# Altium integrated library Renesas Power Management Linear.IntLib: 125 symbols (part 2 of 4)
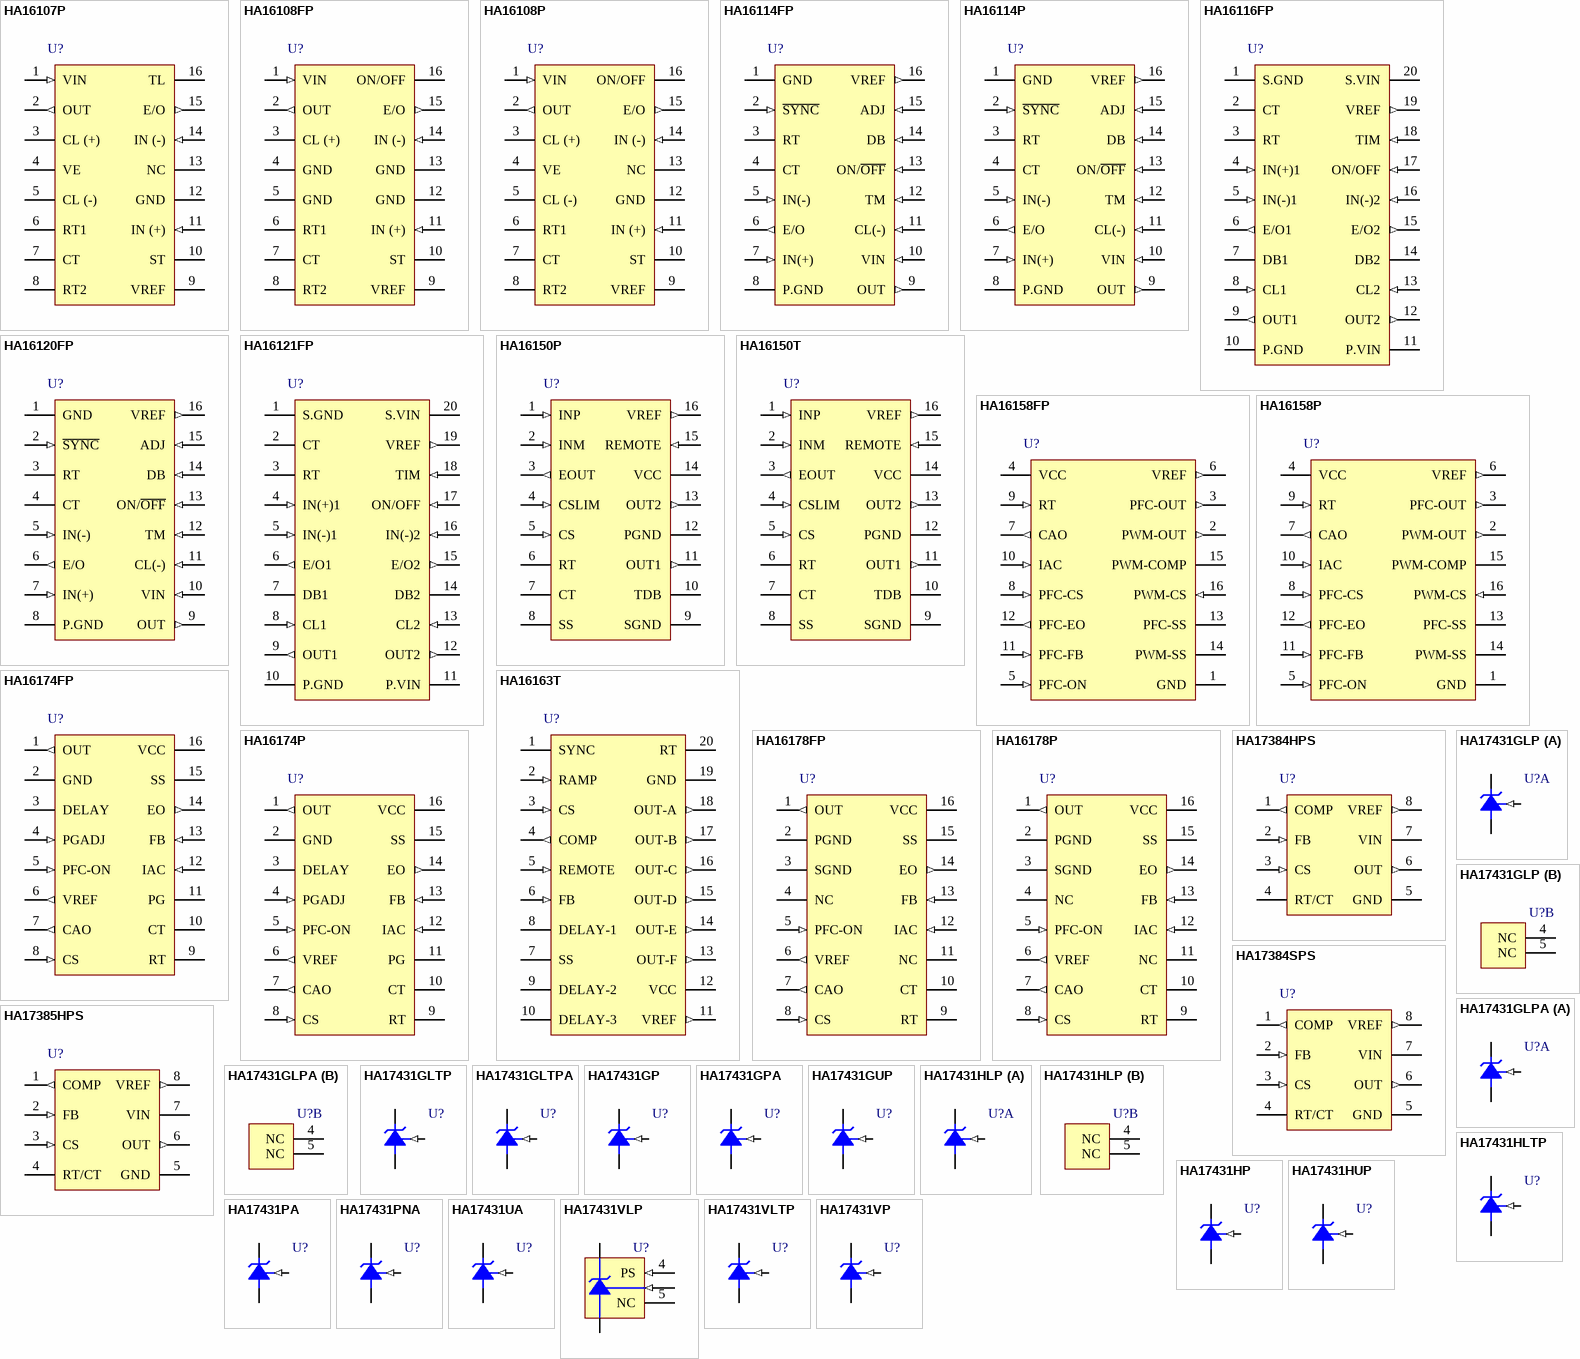
[diagram p4: symbols HA16107P to HA17431VP]

## HA16114FP
designator U?
Single-Channel PWM Switching Regulator for Chopper-Type DC/DC Converter, 600kHz, Vin (40V), 16-pin SOP; Note: Pin 1 (GND) and Pin 8 (P.GND) must be connected to each other with external wire.; Published: 5-Feb-2010; DatasheetVersion: Rev.2.00, Sep-2003; PackageVersion: Sep-2005; PackageReference: PRSP0016DH-A; Publisher: Altium Limited; PackageDescription: 16-Pin Plastic Small Outline Package 1.27 mm Pitch; Code_JEITA: P-SOP16-5.5x10.06-1.27; ComponentLink1Description: Manufacturer Link; ComponentLink1URL: http://sg.renesas.com/fmwk.jsp?cnt=dcdc_converter_root.jsp&fp=/products/standard_ic/general_purpose_linear/power_management_linear/dcdc_converter/; ComponentLink2Description: Datasheet; ComponentLink2URL: http://documentation.renesas.com/eng/products/linear/rej03f0055_ha16114.pdf; ComponentLink3Description: Packaging Specification; ComponentLink3URL: http://sg.renesas.com/media/products/common_info/package/pdf/ic/code/prsp0016dh_a.pdf
footprint PRSP0016DH-A_N (SOP, 16-Leads, Body 10.06x5.5mm, Pitch 1.27mm, IPC Medium Density)
footprint PRSP0016DH-A_L (SOP, 16-Leads, Body 10.06x5.5mm, Pitch 1.27mm, IPC High Density)
footprint PRSP0016DH-A_M (SOP, 16-Leads, Body 10.06x5.5mm, Pitch 1.27mm, IPC Low Density)
pins: 1 GND (power) "Signal ground", 2 ~{SYNC} (in) "External sync signal input (synchronized with falling edge)", 3 RT "Oscillator timing resistor connection (bias current control)", 4 CT "Oscillator timing capacitor connection (sawtooth voltage output)", 5 IN(-) (in) "Inverting input to error amplifier", 6 E/O (out) "Error amplifier output", 7 IN(+) (in) "Non-inverting input to error amplifier", 8 P.GND (power) "Power ground", 9 OUT (out) "Output (pulse output to gate of power MOSFET)", 10 VIN (in) "Power supply input", 11 CL(-) (in) "Inverting input to current limiter", 12 TM (in) "Timer setting for intermittent shutdown when overcurrent is detected (sinks timer transistor current)", 13 ON/~{OFF} (in) "IC on/off control (off below approximately 0.7 V)", 14 DB (in) "Dead-band duty cycle control input", 15 ADJ (in) "Reference voltage (Vref) adjustment input", 16 VREF (out) "2.5 V reference voltage output"

## HA16114P
designator U?
Single-Channel PWM Switching Regulator for Chopper-Type DC/DC Converter, 600kHz, Vin (40V), 16-pin DIP; Note: Pin 1 (GND) and Pin 8 (P.GND) must be connected to each other with external wire.; Published: 5-Feb-2010; DatasheetVersion: Rev.2.00, Sep-2003; PackageVersion: Sep-2005; PackageReference: PRDP0016AE-A; Publisher: Altium Limited; PackageDescription: DIP, Plastic, 16-Pin, Row Spacing 7.62 mm, Pitch 2.54 mm; Code_JEITA: P-DIP16-6.3x19.2-2.54; ComponentLink1Description: Manufacturer Link; ComponentLink1URL: http://sg.renesas.com/fmwk.jsp?cnt=dcdc_converter_root.jsp&fp=/products/standard_ic/general_purpose_linear/power_management_linear/dcdc_converter/; ComponentLink2Description: Datasheet; ComponentLink2URL: http://documentation.renesas.com/eng/products/linear/rej03f0055_ha16114.pdf; ComponentLink3Description: Packaging Specification; ComponentLink3URL: http://sg.renesas.com/media/products/common_info/package/pdf/ic/code/prdp0016ae_a.pdf
footprint PRDP0016AE-A (DIP, 16-Leads, Row Spacing 7.62mm, Pitch 2.54mm, Body 19.2x6.3mm)
pins: 1 GND (power) "Signal ground", 2 ~{SYNC} (in) "External sync signal input (synchronized with falling edge)", 3 RT "Oscillator timing resistor connection (bias current control)", 4 CT "Oscillator timing capacitor connection (sawtooth voltage output)", 5 IN(-) (in) "Inverting input to error amplifier", 6 E/O (out) "Error amplifier output", 7 IN(+) (in) "Non-inverting input to error amplifier", 8 P.GND (power) "Power ground", 9 OUT (out) "Output (pulse output to gate of power MOSFET)", 10 VIN (in) "Power supply input", 11 CL(-) (in) "Inverting input to current limiter", 12 TM (in) "Timer setting for intermittent shutdown when overcurrent is detected (sinks timer transistor current)", 13 ON/~{OFF} (in) "IC on/off control (off below approximately 0.7 V)", 14 DB (in) "Dead-band duty cycle control input", 15 ADJ (in) "Reference voltage (Vref) adjustment input", 16 VREF (out) "2.5 V reference voltage output"

## HA16116FP
designator U?
Dual-Channel PWM Switching Regulator for Chopper-Type DC/DC Converter, 600kHz, Vin (40V), 20-pin SOP; Published: 5-Feb-2010; DatasheetVersion: Rev.2.00, Sep-2003; PackageVersion: Sep-2005; PackageReference: PRSP0020DD-A; Publisher: Altium Limited; PackageDescription: 20-Pin Plastic Small Outline Package, 12.6 x 5.5 x 1.8 mm Body, 1.27 mm Pitch; Code_JEITA: P-SOP20-5.5x12.6-1.27; ComponentLink1Description: Manufacturer Link; ComponentLink1URL: http://sg.renesas.com/fmwk.jsp?cnt=dcdc_converter_root.jsp&fp=/products/standard_ic/general_purpose_linear/power_management_linear/dcdc_converter/; ComponentLink2Description: Datasheet; ComponentLink2URL: http://documentation.renesas.com/eng/products/linear/rej03f0056_ha16116_121.pdf; ComponentLink3Description: Packaging Specification; ComponentLink3URL: http://sg.renesas.com/media/products/common_info/package/pdf/ic/code/prsp0020dd_a.pdf
footprint PRSP0020DD-A_N (SOP, 20-Leads, Body 12.6x5.3mm, Pitch 1.27mm, IPC Medium Density)
footprint PRSP0020DD-A_L (SOP, 20-Leads, Body 12.6x5.3mm, Pitch 1.27mm, IPC High Density)
footprint PRSP0020DD-A_M (SOP, 20-Leads, Body 12.6x5.3mm, Pitch 1.27mm, IPC Low Density)
pins: 1 S.GND (power) "Signal circuitry ground", 2 CT "Timing capacitance (triangle wave oscillator output)", 3 RT "Timing resistance (for bias current synchronization)", 4 IN(+)1 (in) "Error amp. noninverting input (Channel 1)", 5 IN(-)1 (in) "Error amp. inverting input (Channel 1)", 6 E/O1 (out) "Error amp. output (Channel 1)", 7 DB1 "Dead band timer off period adjustment input (Channel 1)", 8 CL1 (in) "Overcurrent detection input (Channel 1)", 9 OUT1 (out) "PWM pulse output (Channel 1)", 10 P.GND (power) "Output stage ground", 11 P.VIN (power) "Output stage power supply input", 12 OUT2 (out) "PWM pulse output (Channel 2)", 13 CL2 (in) "Overcurrent detection input (Channel 2)", 14 DB2 "Dead band timer off period adjustment input (Channel 2)", 15 E/O2 (out) "Error amp. output (Channel 2)", 16 IN(-)2 (in) "Error amp. inverting input (Channel 2)", 17 ON/OFF (in) "IC on/off switch input (off when grounded)", 18 TIM (in) "Setting of intermittent operation timing when overcurrent is detected (collector input of timer transistor)", 19 VREF (out) "2.5 V reference voltage output", 20 S.VIN (power) "Signal circuitry power supply input"

## HA16120FP
designator U?
Single-Channel PWM Switching Regulator for Chopper-Type DC/DC Converter, 600kHz, Vin (40V), 16-pin SOP; Note: Pin 1 (GND) and Pin 8 (P.GND) must be connected to each other with external wire.; Published: 5-Feb-2010; DatasheetVersion: Rev.2.00, Sep-2003; PackageVersion: Sep-2005; PackageReference: PRSP0016DH-A; Publisher: Altium Limited; PackageDescription: 16-Pin Plastic Small Outline Package 1.27 mm Pitch; Code_JEITA: P-SOP16-5.5x10.06-1.27; ComponentLink1Description: Manufacturer Link; ComponentLink1URL: http://sg.renesas.com/fmwk.jsp?cnt=dcdc_converter_root.jsp&fp=/products/standard_ic/general_purpose_linear/power_management_linear/dcdc_converter/; ComponentLink2Description: Datasheet; ComponentLink2URL: http://documentation.renesas.com/eng/products/linear/rej03f0055_ha16114.pdf; ComponentLink3Description: Packaging Specification; ComponentLink3URL: http://sg.renesas.com/media/products/common_info/package/pdf/ic/code/prsp0016dh_a.pdf
footprint PRSP0016DH-A_N (SOP, 16-Leads, Body 10.06x5.5mm, Pitch 1.27mm, IPC Medium Density)
footprint PRSP0016DH-A_L (SOP, 16-Leads, Body 10.06x5.5mm, Pitch 1.27mm, IPC High Density)
footprint PRSP0016DH-A_M (SOP, 16-Leads, Body 10.06x5.5mm, Pitch 1.27mm, IPC Low Density)
pins: 1 GND (power) "Signal ground", 2 ~{SYNC} (in) "External sync signal input (synchronized with falling edge)", 3 RT "Oscillator timing resistor connection (bias current control)", 4 CT "Oscillator timing capacitor connection (sawtooth voltage output)", 5 IN(-) (in) "Inverting input to error amplifier", 6 E/O (out) "Error amplifier output", 7 IN(+) (in) "Non-inverting input to error amplifier", 8 P.GND (power) "Power ground", 9 OUT (out) "Output (pulse output to gate of power MOSFET)", 10 VIN (in) "Power supply input", 11 CL(-) (in) "Inverting input to current limiter", 12 TM (in) "Timer setting for intermittent shutdown when overcurrent is detected (sinks timer transistor current)", 13 ON/~{OFF} (in) "IC on/off control (off below approximately 0.7 V)", 14 DB (in) "Dead-band duty cycle control input", 15 ADJ (in) "Reference voltage (Vref) adjustment input", 16 VREF (out) "2.5 V reference voltage output"

## HA16121FP
designator U?
Dual-Channel PWM Switching Regulator for Chopper-Type DC/DC Converter, 600kHz, Vin (40V), 20-pin SOP; Published: 5-Feb-2010; DatasheetVersion: Rev.2.00, Sep-2003; PackageVersion: Sep-2005; PackageReference: PRSP0020DD-A; Publisher: Altium Limited; PackageDescription: 20-Pin Plastic Small Outline Package, 12.6 x 5.5 x 1.8 mm Body, 1.27 mm Pitch; Code_JEITA: P-SOP20-5.5x12.6-1.27; ComponentLink1Description: Manufacturer Link; ComponentLink1URL: http://sg.renesas.com/fmwk.jsp?cnt=dcdc_converter_root.jsp&fp=/products/standard_ic/general_purpose_linear/power_management_linear/dcdc_converter/; ComponentLink2Description: Datasheet; ComponentLink2URL: http://documentation.renesas.com/eng/products/linear/rej03f0056_ha16116_121.pdf; ComponentLink3Description: Packaging Specification; ComponentLink3URL: http://sg.renesas.com/media/products/common_info/package/pdf/ic/code/prsp0020dd_a.pdf
footprint PRSP0020DD-A_N (SOP, 20-Leads, Body 12.6x5.3mm, Pitch 1.27mm, IPC Medium Density)
footprint PRSP0020DD-A_L (SOP, 20-Leads, Body 12.6x5.3mm, Pitch 1.27mm, IPC High Density)
footprint PRSP0020DD-A_M (SOP, 20-Leads, Body 12.6x5.3mm, Pitch 1.27mm, IPC Low Density)
pins: 1 S.GND (power) "Signal circuitry ground", 2 CT "Timing capacitance (triangle wave oscillator output)", 3 RT "Timing resistance (for bias current synchronization)", 4 IN(+)1 (in) "Error amp. noninverting input (Channel 1)", 5 IN(-)1 (in) "Error amp. inverting input (Channel 1)", 6 E/O1 (out) "Error amp. output (Channel 1)", 7 DB1 "Dead band timer off period adjustment input (Channel 1)", 8 CL1 (in) "Overcurrent detection input (Channel 1)", 9 OUT1 (out) "PWM pulse output (Channel 1)", 10 P.GND (power) "Output stage ground", 11 P.VIN (power) "Output stage power supply input", 12 OUT2 (out) "PWM pulse output (Channel 2)", 13 CL2 (in) "Overcurrent detection input (Channel 2)", 14 DB2 "Dead band timer off period adjustment input (Channel 2)", 15 E/O2 (out) "Error amp. output (Channel 2)", 16 IN(-)2 (in) "Error amp. inverting input (Channel 2)", 17 ON/OFF (in) "IC on/off switch input (off when grounded)", 18 TIM (in) "Setting of intermittent operation timing when overcurrent is detected (collector input of timer transistor)", 19 VREF (out) "2.5 V reference voltage output", 20 S.VIN (power) "Signal circuitry power supply input"

## HA16150P
designator U?
High-Speed Current Mode Push-Pull PWM Controller, 1 MHzVin (20V), 16-pin DIP; Published: 5-Feb-2010; DatasheetVersion: Rev.3.00, Jan-2007; PackageVersion: Sep-2005; PackageReference: PRDP0016AE-A; Publisher: Altium Limited; PackageDescription: DIP, Plastic, 16-Pin, Row Spacing 7.62 mm, Pitch 2.54 mm; Code_JEITA: P-DIP16-6.3x19.2-2.54; ComponentLink1Description: Manufacturer Link; ComponentLink1URL: http://sg.renesas.com/fmwk.jsp?cnt=dcdc_converter_root.jsp&fp=/products/standard_ic/general_purpose_linear/power_management_linear/dcdc_converter/; ComponentLink2Description: Datasheet; ComponentLink2URL: http://documentation.renesas.com/eng/products/linear/rej03f0146_ha16150t.pdf; ComponentLink3Description: Packaging Specification; ComponentLink3URL: http://sg.renesas.com/media/products/common_info/package/pdf/ic/code/prdp0016ae_a.pdf
footprint PRDP0016AE-A (DIP, 16-Leads, Row Spacing 7.62mm, Pitch 2.54mm, Body 19.2x6.3mm)
pins: 1 INP (in) "Error amplifier non-inverted (+) input", 2 INM (in) "Error amplifier inverted (-) input", 3 EOUT (out) "Error amplifier output", 4 CSLIM (in) "Current limiter level adjustment", 5 CS (in) "Current sense signal input", 6 RT "Operating frequency setting resistance connection", 7 CT "Operating frequency setting capacitance connection", 8 SS "Soft start time setting timing capacitance connection", 9 SGND (power) "Small signal system ground", 10 TDB "Dead band time setting timing capacitance connection", 11 OUT1 (out) "Power MOSFET driver output 1", 12 PGND (power) "Power system ground", 13 OUT2 (out) "Power MOSFET driver output 2", 14 VCC (power) "Supply voltage", 15 REMOTE (in) "Remote on/off control", 16 VREF (out) "Reference voltage"

## HA16150T
designator U?
High-Speed Current Mode Push-Pull PWM Controller, 1 MHzVin (20V), 16-pin TSSOP; Published: 5-Feb-2010; DatasheetVersion: Rev.3.00, Jan-2007; PackageVersion: Sep-2005; PackageReference: PTSP0016JB-A; Publisher: Altium Limited; PackageDescription: 16-Pin Plastic Thin Small Outline Package, 5 x 4.4mm Body, 0.65 mm Pitch; Code_JEITA: P-TSSOP16-4.4x5-0.65; ComponentLink1Description: Manufacturer Link; ComponentLink1URL: http://sg.renesas.com/fmwk.jsp?cnt=dcdc_converter_root.jsp&fp=/products/standard_ic/general_purpose_linear/power_management_linear/dcdc_converter/; ComponentLink2Description: Datasheet; ComponentLink2URL: http://documentation.renesas.com/eng/products/linear/rej03f0146_ha16150t.pdf; ComponentLink3Description: Packaging Specification; ComponentLink3URL: http://sg.renesas.com/media/products/common_info/package/pdf/ic/code/ptsp0016jb_a.pdf
footprint PTSP0016JB-A_N (TSOP, 16-Leads, Body 5x4.4mm, Pitch 0.65mm, IPC Medium Density)
footprint PTSP0016JB-A_L (TSOP, 16-Leads, Body 5x4.4mm, Pitch 0.65mm, IPC High Density)
footprint PTSP0016JB-A_M (TSOP, 16-Leads, Body 5x4.4mm, Pitch 0.65mm, IPC Low Density)
pins: 1 INP (in) "Error amplifier non-inverted (+) input", 2 INM (in) "Error amplifier inverted (-) input", 3 EOUT (out) "Error amplifier output", 4 CSLIM (in) "Current limiter level adjustment", 5 CS (in) "Current sense signal input", 6 RT "Operating frequency setting resistance connection", 7 CT "Operating frequency setting capacitance connection", 8 SS "Soft start time setting timing capacitance connection", 9 SGND (power) "Small signal system ground", 10 TDB "Dead band time setting timing capacitance connection", 11 OUT1 (out) "Power MOSFET driver output 1", 12 PGND (power) "Power system ground", 13 OUT2 (out) "Power MOSFET driver output 2", 14 VCC (power) "Supply voltage", 15 REMOTE (in) "Remote on/off control", 16 VREF (out) "Reference voltage"

## HA16158FP
designator U?
Power-Factor Correction (PFC) and PWM Controller, VCC (24V), 16-pin SOP; Published: 5-Feb-2010; DatasheetVersion: Rev.2.00, Jan-2007; PackageVersion: Sep-2005; PackageReference: PRSP0016DH-A; Publisher: Altium Limited; PackageDescription: 16-Pin Plastic Small Outline Package 1.27 mm Pitch; Code_JEITA: P-SOP16-5.5x10.06-1.27; ComponentLink1Description: Manufacturer Link; ComponentLink1URL: http://sg.renesas.com/fmwk.jsp?cnt=pfc_power_supply_root.jsp&fp=/products/standard_ic/general_purpose_linear/power_management_linear/pfc_power_supply/; ComponentLink2Description: Datasheet; ComponentLink2URL: http://documentation.renesas.com/eng/products/linear/rej03f0147_ha16158p.pdf; ComponentLink3Description: Packaging Specification; ComponentLink3URL: http://sg.renesas.com/media/products/common_info/package/pdf/ic/code/prsp0016dh_a.pdf
footprint PRSP0016DH-A_N (SOP, 16-Leads, Body 10.06x5.5mm, Pitch 1.27mm, IPC Medium Density)
footprint PRSP0016DH-A_L (SOP, 16-Leads, Body 10.06x5.5mm, Pitch 1.27mm, IPC High Density)
footprint PRSP0016DH-A_M (SOP, 16-Leads, Body 10.06x5.5mm, Pitch 1.27mm, IPC Low Density)
pins: 1 GND (power) "Ground", 2 PWM-OUT (out) "Power MOS FET driver output (PWM control)", 3 PFC-OUT (out) "Power MOS FET driver output (PFC control)", 4 VCC (power) "Supply voltage", 5 PFC-ON (in) "PFC function on/off signal input", 6 VREF (out) "Reference voltage", 7 CAO (out) "Average current control error amplifier output", 8 PFC-CS (in) "PFC control current sense signal input", 9 RT (in) "Operating frequency setting timing resistance connection", 10 IAC (in) "Multiplier reference current input", 11 PFC-FB (in) "PFC control error amplifier input", 12 PFC-EO (out) "PFC control error amplifier output", 13 PFC-SS "PFC control soft start time setting capacitance connection", 14 PWM-SS "PWM control soft start time setting capacitance connection", 15 PWM-COMP "PWM control voltage feedback", 16 PWM-CS (in) "PWM control current sense signal input"

## HA16158P
designator U?
Power-Factor Correction (PFC) and PWM Controller, VCC (24V), 16-pin DILP; Published: 5-Feb-2010; DatasheetVersion: Rev.2.00, Jan-2007; PackageVersion: Sep-2005; PackageReference: PRDP0016AE-A; Publisher: Altium Limited; PackageDescription: DIP, Plastic, 16-Pin, Row Spacing 7.62 mm, Pitch 2.54 mm; Code_JEITA: P-DIP16-6.3x19.2-2.54; ComponentLink1Description: Manufacturer Link; ComponentLink1URL: http://sg.renesas.com/fmwk.jsp?cnt=pfc_power_supply_root.jsp&fp=/products/standard_ic/general_purpose_linear/power_management_linear/pfc_power_supply/; ComponentLink2Description: Datasheet; ComponentLink2URL: http://documentation.renesas.com/eng/products/linear/rej03f0147_ha16158p.pdf; ComponentLink3Description: Packaging Specification; ComponentLink3URL: http://sg.renesas.com/media/products/common_info/package/pdf/ic/code/prdp0016ae_a.pdf
footprint PRDP0016AE-A (DIP, 16-Leads, Row Spacing 7.62mm, Pitch 2.54mm, Body 19.2x6.3mm)
pins: 1 GND (power) "Ground", 2 PWM-OUT (out) "Power MOS FET driver output (PWM control)", 3 PFC-OUT (out) "Power MOS FET driver output (PFC control)", 4 VCC (power) "Supply voltage", 5 PFC-ON (in) "PFC function on/off signal input", 6 VREF (out) "Reference voltage", 7 CAO (out) "Average current control error amplifier output", 8 PFC-CS (in) "PFC control current sense signal input", 9 RT (in) "Operating frequency setting timing resistance connection", 10 IAC (in) "Multiplier reference current input", 11 PFC-FB (in) "PFC control error amplifier input", 12 PFC-EO (out) "PFC control error amplifier output", 13 PFC-SS "PFC control soft start time setting capacitance connection", 14 PWM-SS "PWM control soft start time setting capacitance connection", 15 PWM-COMP "PWM control voltage feedback", 16 PWM-CS (in) "PWM control current sense signal input"

## HA16163T
designator U?
Synchronous Phase Shift Full-Bridge Controller, 2 MHz, Vin (20V), 20-pin TSSOP; Published: 5-Feb-2010; DatasheetVersion: Rev.6.00, Jul-2008; PackageVersion: Sep-2005; PackageReference: PTSP0020JB-A; Publisher: Altium Limited; PackageDescription: 20-Pin Plastic Thin Small Outline Package, 6.5 x 4.4 mm Body, 0.65 mm Pitch; Code_JEITA: P-TSSOP20-4.4x6.5-0.65; ComponentLink1Description: Manufacturer Link; ComponentLink1URL: http://sg.renesas.com/fmwk.jsp?cnt=insulated_swps_root.jsp&fp=/products/standard_ic/general_purpose_linear/power_management_linear/insulated_sw_powersupply/; ComponentLink2Description: Datasheet; ComponentLink2URL: http://documentation.renesas.com/eng/products/linear/rej03f0001_ha16163t.pdf; ComponentLink3Description: Packaging Specification; ComponentLink3URL: http://sg.renesas.com/media/products/common_info/package/pdf/ic/code/ptsp0020jb_a.pdf
footprint PTSP0020JB-A_N (TSOP, 20-Leads, Body 6.5x4.4mm, Pitch 0.65mm, IPC Medium Density)
footprint PTSP0020JB-A_L (TSOP, 20-Leads, Body 6.5x4.4mm, Pitch 0.65mm, IPC High Density)
footprint PTSP0020JB-A_M (TSOP, 20-Leads, Body 6.5x4.4mm, Pitch 0.65mm, IPC Low Density)
pins: 1 SYNC "Synchronization I/O for the oscillator", 2 RAMP (in) "Current sense signal input for the full-bridge control loop", 3 CS (in) "Current sense signal input for OCP", 4 COMP (out) "Error amplifier output", 5 REMOTE (in) "Remote on/off control", 6 FB (in) "Voltage feedback input", 7 SS "Timing capacitor for both soft start and timer latch", 8 DELAY-1 "Delay time adjustor for the full-bridge control signal (OUT-A and B)", 9 DELAY-2 "Delay time adjustor for the full-bridge control signal (OUT-C and D)", 10 DELAY-3 "Delay time adjustor for the secondary control signal (OUT-E and F)", 11 VREF (out) "5 V/20 mA Output", 12 VCC (power) "IC power supply input", 13 OUT-F (out) "Secondary control signal", 14 OUT-E (out) "Secondary control signal", 15 OUT-D (out) "Full-bridge control signal", 16 OUT-C (out) "Full-bridge control signal", 17 OUT-B (out) "Full-bridge control signal", 18 OUT-A (out) "Full-bridge control signal", 19 GND (power) "Ground level for the IC", 20 RT "Timing resistor for the oscillator"

## HA16174FP
designator U?
Power-Factor Correction (PFC) Controller, Continuous Conduction Mode, VCC (24V), 16-pin SOP; Published: 5-Feb-2010; DatasheetVersion: Rev.1.00, Jan-2006; PackageVersion: Sep-2005; PackageReference: PRSP0016DH-B; Publisher: Altium Limited; PackageDescription: 16-Pin Plastic Small Outline Package 1.27 mm Pitch; Code_JEITA: P-SOP16-5.5x10.06-1.27; ComponentLink1Description: Manufacturer Link; ComponentLink1URL: http://sg.renesas.com/fmwk.jsp?cnt=pfc_power_supply_root.jsp&fp=/products/standard_ic/general_purpose_linear/power_management_linear/pfc_power_supply/; ComponentLink2Description: Datasheet; ComponentLink2URL: http://documentation.renesas.com/eng/products/linear/rej03d0789_ha16174p_fp.pdf; ComponentLink3Description: Packaging Specification; ComponentLink3URL: http://sg.renesas.com/media/products/common_info/package/pdf/ic/code/prsp0016dh_b.pdf
footprint PRSP0016DH-B_N (SOP, 16-Leads, Body 10.06x5.5mm, Pitch 1.27mm, IPC Medium Density)
footprint PRSP0016DH-B_L (SOP, 16-Leads, Body 10.06x5.5mm, Pitch 1.27mm, IPC High Density)
footprint PRSP0016DH-B_M (SOP, 16-Leads, Body 10.06x5.5mm, Pitch 1.27mm, IPC Low Density)
pins: 1 OUT (out) "Power MOSFET gate driver output", 2 GND (power) "Ground", 3 DELAY "PG start up delay time and hold time adjust and IC shut down", 4 PGADJ (in) "PG off threshold voltage input", 5 PFC-ON (in) "PFC function on/off signal input", 6 VREF (out) "Reference voltage output", 7 CAO (out) "Current control error amplifier output", 8 CS (in) "Current sense signal input", 9 RT "Timing resistor for operational frequency adjust", 10 CT "Timing capacitor for operational frequency adjust", 11 PG (oc) "Power good signal output (open drain output)", 12 IAC (in) "Multiplier reference current input", 13 FB (in) "Voltage control error amplifier input", 14 EO (out) "Voltage control error amplifier output", 15 SS "Timing capacitor for soft start time adjust", 16 VCC (power) "Power supply voltage input"

## HA16174P
designator U?
Power-Factor Correction (PFC) Controller, Continuous Conduction Mode, VCC (24V), 16-pin DIP; Published: 5-Feb-2010; DatasheetVersion: Rev.1.00, Jan-2006; PackageVersion: Sep-2005; PackageReference: PRDP0016AE-B; Publisher: Altium Limited; PackageDescription: DIP, Plastic, 16-Pin, Row Spacing 7.62 mm, Pitch 2.54 mm; Code_JEITA: P-DIP16-6.3x19.2-2.54; ComponentLink1Description: Manufacturer Link; ComponentLink1URL: http://sg.renesas.com/fmwk.jsp?cnt=pfc_power_supply_root.jsp&fp=/products/standard_ic/general_purpose_linear/power_management_linear/pfc_power_supply/; ComponentLink2Description: Datasheet; ComponentLink2URL: http://documentation.renesas.com/eng/products/linear/rej03d0789_ha16174p_fp.pdf; ComponentLink3Description: Packaging Specification; ComponentLink3URL: http://sg.renesas.com/media/products/common_info/package/pdf/ic/code/prdp0016ae_b.pdf
footprint PRDP0016AE-B (DIP, 16-Leads, Row Spacing 7.62mm, Pitch 2.54mm, Body 19.2x6.3mm)
pins: 1 OUT (out) "Power MOSFET gate driver output", 2 GND (power) "Ground", 3 DELAY "PG start up delay time and hold time adjust and IC shut down", 4 PGADJ (in) "PG off threshold voltage input", 5 PFC-ON (in) "PFC function on/off signal input", 6 VREF (out) "Reference voltage output", 7 CAO (out) "Current control error amplifier output", 8 CS (in) "Current sense signal input", 9 RT "Timing resistor for operational frequency adjust", 10 CT "Timing capacitor for operational frequency adjust", 11 PG (oc) "Power good signal output (open drain output)", 12 IAC (in) "Multiplier reference current input", 13 FB (in) "Voltage control error amplifier input", 14 EO (out) "Voltage control error amplifier output", 15 SS "Timing capacitor for soft start time adjust", 16 VCC (power) "Power supply voltage input"

## HA16178FP
designator U?
Power-Factor Correction (PFC) Controller, VCC (24V), 16-pin SOP; Published: 5-Feb-2010; DatasheetVersion: Rev.1.00, Jun-2007; PackageVersion: Sep-2005; PackageReference: PRSP0016DH-B; Publisher: Altium Limited; PackageDescription: 16-Pin Plastic Small Outline Package 1.27 mm Pitch; Code_JEITA: P-SOP16-5.5x10.06-1.27; ComponentLink1Description: Manufacturer Link; ComponentLink1URL: http://sg.renesas.com/fmwk.jsp?cnt=pfc_power_supply_root.jsp&fp=/products/standard_ic/general_purpose_linear/power_management_linear/pfc_power_supply/; ComponentLink2Description: Datasheet; ComponentLink2URL: http://documentation.renesas.com/eng/products/linear/rej03d0903_ha16178pds.pdf; ComponentLink3Description: Packaging Specification; ComponentLink3URL: http://sg.renesas.com/media/products/common_info/package/pdf/ic/code/prsp0016dh_b.pdf
footprint PRSP0016DH-B_N (SOP, 16-Leads, Body 10.06x5.5mm, Pitch 1.27mm, IPC Medium Density)
footprint PRSP0016DH-B_L (SOP, 16-Leads, Body 10.06x5.5mm, Pitch 1.27mm, IPC High Density)
footprint PRSP0016DH-B_M (SOP, 16-Leads, Body 10.06x5.5mm, Pitch 1.27mm, IPC Low Density)
pins: 1 OUT (out) "Power MOSFET gate driver output", 2 PGND (power) "Ground", 3 SGND (power) "Ground", 4 NC "No connection", 5 PFC-ON (in) "PFC function on/off signal input", 6 VREF (out) "Reference voltage output", 7 CAO (out) "Current control error amplifier output", 8 CS (in) "Current sense signal input", 9 RT "Timing resistor for operational frequency adjust", 10 CT "Timing capacitor for operational frequency adjust", 11 NC "No connection", 12 IAC (in) "Multiplier reference current input", 13 FB (in) "Voltage control error amplifier input", 14 EO (out) "Voltage control error amplifier output", 15 SS "Timing capacitor for soft start time adjust", 16 VCC (power) "Power supply voltage input"

## HA16178P
designator U?
Power-Factor Correction (PFC) Controller, VCC (24V), 16-pin DIP; Published: 5-Feb-2010; DatasheetVersion: Rev.1.00, Jun-2007; PackageVersion: Sep-2005; PackageReference: PRDP0016AE-B; Publisher: Altium Limited; PackageDescription: DIP, Plastic, 16-Pin, Row Spacing 7.62 mm, Pitch 2.54 mm; Code_JEITA: P-DIP16-6.3x19.2-2.54; ComponentLink1Description: Manufacturer Link; ComponentLink1URL: http://sg.renesas.com/fmwk.jsp?cnt=pfc_power_supply_root.jsp&fp=/products/standard_ic/general_purpose_linear/power_management_linear/pfc_power_supply/; ComponentLink2Description: Datasheet; ComponentLink2URL: http://documentation.renesas.com/eng/products/linear/rej03d0903_ha16178pds.pdf; ComponentLink3Description: Packaging Specification; ComponentLink3URL: http://sg.renesas.com/media/products/common_info/package/pdf/ic/code/prdp0016ae_b.pdf
footprint PRDP0016AE-B (DIP, 16-Leads, Row Spacing 7.62mm, Pitch 2.54mm, Body 19.2x6.3mm)
pins: 1 OUT (out) "Power MOSFET gate driver output", 2 PGND (power) "Ground", 3 SGND (power) "Ground", 4 NC "No connection", 5 PFC-ON (in) "PFC function on/off signal input", 6 VREF (out) "Reference voltage output", 7 CAO (out) "Current control error amplifier output", 8 CS (in) "Current sense signal input", 9 RT "Timing resistor for operational frequency adjust", 10 CT "Timing capacitor for operational frequency adjust", 11 NC "No connection", 12 IAC (in) "Multiplier reference current input", 13 FB (in) "Voltage control error amplifier input", 14 EO (out) "Voltage control error amplifier output", 15 SS "Timing capacitor for soft start time adjust", 16 VCC (power) "Power supply voltage input"

## HA17384HPS
designator U?
High Speed Current Mode PWM Controller for Switching Power Supply, OVP & TSD, 500kHz, Vin (30V), 8-pin DIP; ComponentAvailability: Not Recommended for New Design; Published: 5-Feb-2010; DatasheetVersion: Rev.3.00, Jun-2005; PackageVersion: Sep-2005; PackageReference: PRDP0008AF-A; Publisher: Altium Limited; PackageDescription: 8-Pin Plastic DIP, 9.6 x 6.3 mm Body, 7.62 mm Row Spacing, Pitch 2.54 mm; Code_JEITA: P-DIP8-6.3x9.6-2.54; ComponentLink1Description: Manufacturer Link; ComponentLink1URL: http://sg.renesas.com/fmwk.jsp?cnt=insulated_swps_root.jsp&fp=/products/standard_ic/general_purpose_linear/power_management_linear/insulated_sw_powersupply/; ComponentLink2Description: Datasheet; ComponentLink2URL: http://documentation.renesas.com/eng/products/linear/rej03f0149_ha17384sps.pdf; ComponentLink3Description: Packaging Specification; ComponentLink3URL: http://sg.renesas.com/media/products/common_info/package/pdf/ic/code/prdp0008af_a.pdf
footprint PRDP0008AF-A (DIP, 8-Leads, Row Spacing 7.62mm, Pitch 2.54mm, Body 9.6x6.3mm)
pins: 1 COMP (out) "Error amplifier output pin", 2 FB (in) "Inverting input of error amp./OVP input pin", 3 CS (in) "Current sensing signal input pin", 4 RT/CT "Timing resistance, timing capacitance connect pin", 5 GND (power) "Groung pin", 6 OUT (out) "PWM Pulse output pin", 7 VIN (power) "Power supply voltage input pin", 8 VREF (out) "Reference voltage 5V output pin"

## HA17384SPS
designator U?
High Speed Current Mode PWM Controller for Switching Power Supply, 500kHz, Vin (30V), 8-pin DIP; ComponentAvailability: Not Recommended for New Design; Published: 5-Feb-2010; DatasheetVersion: Rev.3.00, Jun-2005; PackageVersion: Sep-2005; PackageReference: PRDP0008AF-A; Publisher: Altium Limited; PackageDescription: 8-Pin Plastic DIP, 9.6 x 6.3 mm Body, 7.62 mm Row Spacing, Pitch 2.54 mm; Code_JEITA: P-DIP8-6.3x9.6-2.54; ComponentLink1Description: Manufacturer Link; ComponentLink1URL: http://sg.renesas.com/fmwk.jsp?cnt=insulated_swps_root.jsp&fp=/products/standard_ic/general_purpose_linear/power_management_linear/insulated_sw_powersupply/; ComponentLink2Description: Datasheet; ComponentLink2URL: http://documentation.renesas.com/eng/products/linear/rej03f0149_ha17384sps.pdf; ComponentLink3Description: Packaging Specification; ComponentLink3URL: http://sg.renesas.com/media/products/common_info/package/pdf/ic/code/prdp0008af_a.pdf
footprint PRDP0008AF-A (DIP, 8-Leads, Row Spacing 7.62mm, Pitch 2.54mm, Body 9.6x6.3mm)
pins: 1 COMP (out) "Error amplifier output pin", 2 FB (in) "Inverting input of error amp.", 3 CS (in) "Current sensing signal input pin", 4 RT/CT "Timing resistance, timing capacitance connect pin", 5 GND (power) "Groung pin", 6 OUT (out) "PWM Pulse output pin", 7 VIN (power) "Power supply voltage input pin", 8 VREF (out) "Reference voltage 5V output pin"

## HA17385HPS
designator U?
High Speed Current Mode PWM Controller for Switching Power Supply, OVP & TSD, 500kHz, Vin (30V), 8-pin DIP; ComponentAvailability: Not Recommended for New Design; Published: 5-Feb-2010; DatasheetVersion: Rev.3.00, Jun-2005; PackageVersion: Sep-2005; PackageReference: PRDP0008AF-A; Publisher: Altium Limited; PackageDescription: 8-Pin Plastic DIP, 9.6 x 6.3 mm Body, 7.62 mm Row Spacing, Pitch 2.54 mm; Code_JEITA: P-DIP8-6.3x9.6-2.54; ComponentLink1Description: Manufacturer Link; ComponentLink1URL: http://sg.renesas.com/fmwk.jsp?cnt=insulated_swps_root.jsp&fp=/products/standard_ic/general_purpose_linear/power_management_linear/insulated_sw_powersupply/; ComponentLink2Description: Datasheet; ComponentLink2URL: http://documentation.renesas.com/eng/products/linear/rej03f0149_ha17384sps.pdf; ComponentLink3Description: Packaging Specification; ComponentLink3URL: http://sg.renesas.com/media/products/common_info/package/pdf/ic/code/prdp0008af_a.pdf
footprint PRDP0008AF-A (DIP, 8-Leads, Row Spacing 7.62mm, Pitch 2.54mm, Body 9.6x6.3mm)
pins: 1 COMP (out) "Error amplifier output pin", 2 FB (in) "Inverting input of error amp./OVP input pin", 3 CS (in) "Current sensing signal input pin", 4 RT/CT "Timing resistance, timing capacitance connect pin", 5 GND (power) "Groung pin", 6 OUT (out) "PWM Pulse output pin", 7 VIN (power) "Power supply voltage input pin", 8 VREF (out) "Reference voltage 5V output pin"

## HA17431GLP
designator U?
Temperature-Compensated Variable Shunt Regulator, Vref (2.5V ± 1%), VKA (40V), MPAK-5 Package, Industrial Grade; Published: 5-Feb-2010; DatasheetVersion: Rev.1.00, Mar-2006; PackageVersion: Jan-2005; PackageReference: PLSP0005ZB-A; Publisher: Altium Limited; PackageDescription: 5-Lead Plastic Small Outline Transistor, 0.95 mm Pitch, 2.8 mm Lead Span; Code_JEITA: SC-74A; Code_IPC: SOT23-5; ComponentLink1Description: Manufacturer Link; ComponentLink1URL: http://sg.renesas.com/fmwk.jsp?cnt=shunt_regulators_root.jsp&fp=/products/standard_ic/general_purpose_linear/power_management_linear/shunt_regulators/; ComponentLink2Description: Datasheet; ComponentLink2URL: http://documentation.renesas.com/eng/products/linear/rej03d0805_ha17431gds.pdf; ComponentLink3Description: Packaging Specification; ComponentLink3URL: http://sg.renesas.com/media/products/common_info/package/pdf/ic/code/plsp0005zb_a.pdf
footprint PLSP0005ZB-A_N (SOT23, 5-Leads, Body 2.95x1.6mm, Pitch 0.95mm, Lead Span 2.7mm, IPC Medium Density)
footprint PLSP0005ZB-A_L (SOT23, 5-Leads, Body 2.95x1.6mm, Pitch 0.95mm, Lead Span 2.7mm, IPC High Density)
footprint PLSP0005ZB-A_M (SOT23, 5-Leads, Body 2.95x1.6mm, Pitch 0.95mm, Lead Span 2.7mm, IPC Low Density)
part A pins: 1 REF (in), 2 A, 3 K
part B pins: 4 NC, 5 NC

## HA17431GLPA
designator U?
Temperature-Compensated Variable Shunt Regulator, Vref (2.5V ± 0.5%), VKA (40V), MPAK-5 Package, Industrial Grade; Published: 5-Feb-2010; DatasheetVersion: Rev.1.00, Mar-2006; PackageVersion: Jan-2005; PackageReference: PLSP0005ZB-A; Publisher: Altium Limited; PackageDescription: 5-Lead Plastic Small Outline Transistor, 0.95 mm Pitch, 2.8 mm Lead Span; Code_JEITA: SC-74A; Code_IPC: SOT23-5; ComponentLink1Description: Manufacturer Link; ComponentLink1URL: http://sg.renesas.com/fmwk.jsp?cnt=shunt_regulators_root.jsp&fp=/products/standard_ic/general_purpose_linear/power_management_linear/shunt_regulators/; ComponentLink2Description: Datasheet; ComponentLink2URL: http://documentation.renesas.com/eng/products/linear/rej03d0805_ha17431gds.pdf; ComponentLink3Description: Packaging Specification; ComponentLink3URL: http://sg.renesas.com/media/products/common_info/package/pdf/ic/code/plsp0005zb_a.pdf
footprint PLSP0005ZB-A_N (SOT23, 5-Leads, Body 2.95x1.6mm, Pitch 0.95mm, Lead Span 2.7mm, IPC Medium Density)
footprint PLSP0005ZB-A_L (SOT23, 5-Leads, Body 2.95x1.6mm, Pitch 0.95mm, Lead Span 2.7mm, IPC High Density)
footprint PLSP0005ZB-A_M (SOT23, 5-Leads, Body 2.95x1.6mm, Pitch 0.95mm, Lead Span 2.7mm, IPC Low Density)
part A pins: 1 REF (in), 2 A, 3 K
part B pins: 4 NC, 5 NC

## HA17431GLTP
designator U?
Temperature-Compensated Variable Shunt Regulator, Vref (2.5V ± 1%), VKA (40V), MPAK Package, Industrial Grade; Published: 5-Feb-2010; DatasheetVersion: Rev.1.00, Mar-2006; PackageVersion: Sep-2005; PackageReference: MPAKV; Publisher: Altium Limited; PackageDescription: 3-Pin Plastic SOT-23 Package 0.95 mm Pitch, 2.8 mm Lead Span (PLSP0003ZB-A); Code_JEITA: SC-59A; ComponentLink1Description: Manufacturer Link; ComponentLink1URL: http://sg.renesas.com/fmwk.jsp?cnt=shunt_regulators_root.jsp&fp=/products/standard_ic/general_purpose_linear/power_management_linear/shunt_regulators/; ComponentLink2Description: Datasheet; ComponentLink2URL: http://documentation.renesas.com/eng/products/linear/rej03d0805_ha17431gds.pdf; ComponentLink3Description: Packaging Specification; ComponentLink3URL: http://sg.renesas.com/media/products/common_info/package/pdf/ic/code/plsp0003zb_a.pdf
footprint MPAKV_N (SOT346, 3-Leads, Body 2.9x1.5mm, Pitch 0.95mm, Lead Span 2.8mm, IPC Medium Density)
footprint MPAKV_L (SOT346, 3-Leads, Body 2.9x1.5mm, Pitch 0.95mm, Lead Span 2.8mm, IPC High Density)
footprint MPAKV_M (SOT346, 3-Leads, Body 2.9x1.5mm, Pitch 0.95mm, Lead Span 2.8mm, IPC Low Density)
pins: 1 REF (in), 2 K, 3 A

## HA17431GLTPA
designator U?
Temperature-Compensated Variable Shunt Regulator, Vref (2.5V ± 0.5%), VKA (40V), MPAK Package, Industrial Grade; Published: 5-Feb-2010; DatasheetVersion: Rev.1.00, Mar-2006; PackageVersion: Sep-2005; PackageReference: MPAKV; Publisher: Altium Limited; PackageDescription: 3-Pin Plastic SOT-23 Package 0.95 mm Pitch, 2.8 mm Lead Span (PLSP0003ZB-A); Code_JEITA: SC-59A; ComponentLink1Description: Manufacturer Link; ComponentLink1URL: http://sg.renesas.com/fmwk.jsp?cnt=shunt_regulators_root.jsp&fp=/products/standard_ic/general_purpose_linear/power_management_linear/shunt_regulators/; ComponentLink2Description: Datasheet; ComponentLink2URL: http://documentation.renesas.com/eng/products/linear/rej03d0805_ha17431gds.pdf; ComponentLink3Description: Packaging Specification; ComponentLink3URL: http://sg.renesas.com/media/products/common_info/package/pdf/ic/code/plsp0003zb_a.pdf
footprint MPAKV_N (SOT346, 3-Leads, Body 2.9x1.5mm, Pitch 0.95mm, Lead Span 2.8mm, IPC Medium Density)
footprint MPAKV_L (SOT346, 3-Leads, Body 2.9x1.5mm, Pitch 0.95mm, Lead Span 2.8mm, IPC High Density)
footprint MPAKV_M (SOT346, 3-Leads, Body 2.9x1.5mm, Pitch 0.95mm, Lead Span 2.8mm, IPC Low Density)
pins: 1 REF (in), 2 K, 3 A

## HA17431GP
designator U?
Temperature-Compensated Variable Shunt Regulator, Vref (2.5V ± 1%), VKA (40V), TO-92 Package, Industrial Grade; Published: 5-Feb-2010; DatasheetVersion: Rev.1.00, Mar-2006; PackageVersion: Jan-2005; PackageReference: PRSS0003DA-A; Publisher: Altium Limited; PackageDescription: TO, Flat Index; 3 In-Line, Axial Leads; Body Dia. 4.8mm; Leads 0.55 x 0.5 mm (max); Code_JEITA: SC-43A; ComponentLink1Description: Manufacturer Link; ComponentLink1URL: http://sg.renesas.com/fmwk.jsp?cnt=shunt_regulators_root.jsp&fp=/products/standard_ic/general_purpose_linear/power_management_linear/shunt_regulators/; ComponentLink2Description: Datasheet; ComponentLink2URL: http://documentation.renesas.com/eng/products/linear/rej03d0805_ha17431gds.pdf; ComponentLink3Description: Packaging Specification; ComponentLink3URL: http://sg.renesas.com/media/products/common_info/package/pdf/ic/code/prss0003da_a.pdf
footprint PRSS0003DA-A (TO, Flat Index; 3 In-Line, Axial Leads; Body Dia. 4.8mm; Leads 0.55 x 0.5 mm (max))
pins: 1 REF (in), 2 A, 3 K

## HA17431GPA
designator U?
Temperature-Compensated Variable Shunt Regulator, Vref (2.5V ± 0.5%), VKA (40V), TO-92 Package, Industrial Grade; Published: 5-Feb-2010; DatasheetVersion: Rev.1.00, Mar-2006; PackageVersion: Jan-2005; PackageReference: PRSS0003DA-A; Publisher: Altium Limited; PackageDescription: TO, Flat Index; 3 In-Line, Axial Leads; Body Dia. 4.8mm; Leads 0.55 x 0.5 mm (max); Code_JEITA: SC-43A; ComponentLink1Description: Manufacturer Link; ComponentLink1URL: http://sg.renesas.com/fmwk.jsp?cnt=shunt_regulators_root.jsp&fp=/products/standard_ic/general_purpose_linear/power_management_linear/shunt_regulators/; ComponentLink2Description: Datasheet; ComponentLink2URL: http://documentation.renesas.com/eng/products/linear/rej03d0805_ha17431gds.pdf; ComponentLink3Description: Packaging Specification; ComponentLink3URL: http://sg.renesas.com/media/products/common_info/package/pdf/ic/code/prss0003da_a.pdf
footprint PRSS0003DA-A (TO, Flat Index; 3 In-Line, Axial Leads; Body Dia. 4.8mm; Leads 0.55 x 0.5 mm (max))
pins: 1 REF (in), 2 A, 3 K

## HA17431GUP
designator U?
Temperature-Compensated Variable Shunt Regulator, Vref (2.5V ± 1%), VKA (40V), UPAK Package, Industrial Grade; Published: 5-Feb-2010; DatasheetVersion: Rev.1.00, Mar-2006; PackageVersion: Jan-2005; PackageReference: PLZZ0004CA-A; Publisher: Altium Limited; PackageDescription: 3-Pin Plastic SOT-89 Package 1.5 mm Pitch, 4 mm Lead Span; Code_JEITA: SC-62; Code_IPC: SOT89; ComponentLink1Description: Manufacturer Link; ComponentLink1URL: http://sg.renesas.com/fmwk.jsp?cnt=shunt_regulators_root.jsp&fp=/products/standard_ic/general_purpose_linear/power_management_linear/shunt_regulators/; ComponentLink2Description: Datasheet; ComponentLink2URL: http://documentation.renesas.com/eng/products/linear/rej03d0805_ha17431gds.pdf; ComponentLink3Description: Packaging Specification; ComponentLink3URL: http://sg.renesas.com/media/products/common_info/package/pdf/ic/code/plzz0004ca_a.pdf
footprint PLZZ0004CA-A_N (SOT89, 3-Leads, Body 4.5x2.5 mm, Pitch 1.5mm, Lead Span 4mm, IPC Medium Density)
footprint PLZZ0004CA-A_L (SOT89, 3-Leads, Body 4.5x2.5 mm, Pitch 1.5mm, Lead Span 4mm, IPC High Density)
footprint PLZZ0004CA-A_M (SOT89, 3-Leads, Body 4.5x2.5 mm, Pitch 1.5mm, Lead Span 4mm, IPC Low Density)
pins: 1 REF (in), 2 A, 3 K

## HA17431HLP
designator U?
Temperature-Compensated Variable Shunt Regulator, Vref (2.5V ± 1%), VKA (36V), MPAK-5 Package, Industrial Grade; Published: 5-Feb-2010; DatasheetVersion: Rev.2.00, Jun-2005; PackageVersion: Jan-2005; PackageReference: PLSP0005ZB-A; Publisher: Altium Limited; PackageDescription: 5-Lead Plastic Small Outline Transistor, 0.95 mm Pitch, 2.8 mm Lead Span; Code_JEITA: SC-74A; Code_IPC: SOT23-5; ComponentLink1Description: Manufacturer Link; ComponentLink1URL: http://sg.renesas.com/fmwk.jsp?cnt=shunt_regulators_root.jsp&fp=/products/standard_ic/general_purpose_linear/power_management_linear/shunt_regulators/; ComponentLink2Description: Datasheet; ComponentLink2URL: http://documentation.renesas.com/eng/products/linear/rej03d0679_ha17431h.pdf; ComponentLink3Description: Packaging Specification; ComponentLink3URL: http://sg.renesas.com/media/products/common_info/package/pdf/ic/code/plsp0005zb_a.pdf
footprint PLSP0005ZB-A_N (SOT23, 5-Leads, Body 2.95x1.6mm, Pitch 0.95mm, Lead Span 2.7mm, IPC Medium Density)
footprint PLSP0005ZB-A_L (SOT23, 5-Leads, Body 2.95x1.6mm, Pitch 0.95mm, Lead Span 2.7mm, IPC High Density)
footprint PLSP0005ZB-A_M (SOT23, 5-Leads, Body 2.95x1.6mm, Pitch 0.95mm, Lead Span 2.7mm, IPC Low Density)
part A pins: 1 REF (in), 2 A, 3 K
part B pins: 4 NC, 5 NC

## HA17431HLTP
designator U?
Temperature-Compensated Variable Shunt Regulator, Vref (2.5V ± 1%), VKA (36V), MPAK Package, Industrial Grade; Published: 5-Feb-2010; DatasheetVersion: Rev.2.00, Jun-2005; PackageVersion: Sep-2005; PackageReference: MPAKV; Publisher: Altium Limited; PackageDescription: 3-Pin Plastic SOT-23 Package 0.95 mm Pitch, 2.8 mm Lead Span (PLSP0003ZB-A); Code_JEITA: SC-59A; ComponentLink1Description: Manufacturer Link; ComponentLink1URL: http://sg.renesas.com/fmwk.jsp?cnt=shunt_regulators_root.jsp&fp=/products/standard_ic/general_purpose_linear/power_management_linear/shunt_regulators/; ComponentLink2Description: Datasheet; ComponentLink2URL: http://documentation.renesas.com/eng/products/linear/rej03d0679_ha17431h.pdf; ComponentLink3Description: Packaging Specification; ComponentLink3URL: http://sg.renesas.com/media/products/common_info/package/pdf/ic/code/plsp0003zb_a.pdf
footprint MPAKV_N (SOT346, 3-Leads, Body 2.9x1.5mm, Pitch 0.95mm, Lead Span 2.8mm, IPC Medium Density)
footprint MPAKV_L (SOT346, 3-Leads, Body 2.9x1.5mm, Pitch 0.95mm, Lead Span 2.8mm, IPC High Density)
footprint MPAKV_M (SOT346, 3-Leads, Body 2.9x1.5mm, Pitch 0.95mm, Lead Span 2.8mm, IPC Low Density)
pins: 1 REF (in), 2 K, 3 A

## HA17431HP
designator U?
Temperature-Compensated Variable Shunt Regulator, Vref (2.5V ± 1%), VKA (36V), TO-92 Package, Industrial Grade; Published: 5-Feb-2010; DatasheetVersion: Rev.2.00, Jun-2005; PackageVersion: Jan-2005; PackageReference: PRSS0003DA-A; Publisher: Altium Limited; PackageDescription: TO, Flat Index; 3 In-Line, Axial Leads; Body Dia. 4.8mm; Leads 0.55 x 0.5 mm (max); Code_JEITA: SC-43A; ComponentLink1Description: Manufacturer Link; ComponentLink1URL: http://sg.renesas.com/fmwk.jsp?cnt=shunt_regulators_root.jsp&fp=/products/standard_ic/general_purpose_linear/power_management_linear/shunt_regulators/; ComponentLink2Description: Datasheet; ComponentLink2URL: http://documentation.renesas.com/eng/products/linear/rej03d0679_ha17431h.pdf; ComponentLink3Description: Packaging Specification; ComponentLink3URL: http://sg.renesas.com/media/products/common_info/package/pdf/ic/code/prss0003da_a.pdf
footprint PRSS0003DA-A (TO, Flat Index; 3 In-Line, Axial Leads; Body Dia. 4.8mm; Leads 0.55 x 0.5 mm (max))
pins: 1 REF (in), 2 A, 3 K

## HA17431HUP
designator U?
Temperature-Compensated Variable Shunt Regulator, Vref (2.5V ± 1%), VKA (36V), UPAK Package, Industrial Grade; Published: 5-Feb-2010; DatasheetVersion: Rev.2.00, Jun-2005; PackageVersion: Jan-2005; PackageReference: PLZZ0004CA-A; Publisher: Altium Limited; PackageDescription: 3-Pin Plastic SOT-89 Package 1.5 mm Pitch, 4 mm Lead Span; Code_JEITA: SC-62; Code_IPC: SOT89; ComponentLink1Description: Manufacturer Link; ComponentLink1URL: http://sg.renesas.com/fmwk.jsp?cnt=shunt_regulators_root.jsp&fp=/products/standard_ic/general_purpose_linear/power_management_linear/shunt_regulators/; ComponentLink2Description: Datasheet; ComponentLink2URL: http://documentation.renesas.com/eng/products/linear/rej03d0679_ha17431h.pdf; ComponentLink3Description: Packaging Specification; ComponentLink3URL: http://sg.renesas.com/media/products/common_info/package/pdf/ic/code/plzz0004ca_a.pdf
footprint PLZZ0004CA-A_N (SOT89, 3-Leads, Body 4.5x2.5 mm, Pitch 1.5mm, Lead Span 4mm, IPC Medium Density)
footprint PLZZ0004CA-A_L (SOT89, 3-Leads, Body 4.5x2.5 mm, Pitch 1.5mm, Lead Span 4mm, IPC High Density)
footprint PLZZ0004CA-A_M (SOT89, 3-Leads, Body 4.5x2.5 mm, Pitch 1.5mm, Lead Span 4mm, IPC Low Density)
pins: 1 REF (in), 2 A, 3 K

## HA17431PA
designator U?
Temperature-Compensated Variable Shunt Regulator, Vref (2.495V ± 2.2%), VKA (40V), TO-92MOD Package, Industrial Grade; Published: 5-Feb-2010; DatasheetVersion: Rev.3.00, Apr-2007; PackageVersion: Jan-2005; PackageReference: PRSS0003DC-A; Publisher: Altium Limited; PackageDescription: TO, Flat Index; 3 In-Line, Axial Leads; Body Dia. 4.8mm; Leads 0.55 x 0.5 mm (max); Code_JEITA: SC-51; ComponentLink1Description: Manufacturer Link; ComponentLink1URL: http://sg.renesas.com/fmwk.jsp?cnt=shunt_regulators_root.jsp&fp=/products/standard_ic/general_purpose_linear/power_management_linear/shunt_regulators/; ComponentLink2Description: Datasheet; ComponentLink2URL: http://documentation.renesas.com/eng/products/linear/rej03d0678_ha17431.pdf; ComponentLink3Description: Packaging Specification; ComponentLink3URL: http://sg.renesas.com/media/products/common_info/package/pdf/ic/code/prss0003dc_a.pdf
footprint PRSS0003DC-A (TO, Flat Index; 3 In-Line, Axial Leads; Body Dia. 4.8mm; Leads 0.55 x 0.5 mm (max))
pins: 1 REF (in), 2 A, 3 K

## HA17431PNA
designator U?
Temperature-Compensated Variable Shunt Regulator, Vref (2.495V ± 2.2%), VKA (40V), TO-92 Package, Industrial Grade; Published: 5-Feb-2010; DatasheetVersion: Rev.3.00, Apr-2007; PackageVersion: Jan-2005; PackageReference: PRSS0003DA-A; Publisher: Altium Limited; PackageDescription: TO, Flat Index; 3 In-Line, Axial Leads; Body Dia. 4.8mm; Leads 0.55 x 0.5 mm (max); Code_JEITA: SC-43A; ComponentLink1Description: Manufacturer Link; ComponentLink1URL: http://sg.renesas.com/fmwk.jsp?cnt=shunt_regulators_root.jsp&fp=/products/standard_ic/general_purpose_linear/power_management_linear/shunt_regulators/; ComponentLink2Description: Datasheet; ComponentLink2URL: http://documentation.renesas.com/eng/products/linear/rej03d0678_ha17431.pdf; ComponentLink3Description: Packaging Specification; ComponentLink3URL: http://sg.renesas.com/media/products/common_info/package/pdf/ic/code/prss0003da_a.pdf
footprint PRSS0003DA-A (TO, Flat Index; 3 In-Line, Axial Leads; Body Dia. 4.8mm; Leads 0.55 x 0.5 mm (max))
pins: 1 REF (in), 2 A, 3 K

## HA17431UA
designator U?
Temperature-Compensated Variable Shunt Regulator, Vref (2.495V ± 2.2%), VKA (40V), UPAK Package, Commercial Grade; Published: 5-Feb-2010; DatasheetVersion: Rev.3.00, Apr-2007; PackageVersion: Jan-2005; PackageReference: PLZZ0004CA-A; Publisher: Altium Limited; PackageDescription: 3-Pin Plastic SOT-89 Package 1.5 mm Pitch, 4 mm Lead Span; Code_JEITA: SC-62; Code_IPC: SOT89; ComponentLink1Description: Manufacturer Link; ComponentLink1URL: http://sg.renesas.com/fmwk.jsp?cnt=shunt_regulators_root.jsp&fp=/products/standard_ic/general_purpose_linear/power_management_linear/shunt_regulators/; ComponentLink2Description: Datasheet; ComponentLink2URL: http://documentation.renesas.com/eng/products/linear/rej03d0678_ha17431.pdf; ComponentLink3Description: Packaging Specification; ComponentLink3URL: http://sg.renesas.com/media/products/common_info/package/pdf/ic/code/plzz0004ca_a.pdf
footprint PLZZ0004CA-A_N (SOT89, 3-Leads, Body 4.5x2.5 mm, Pitch 1.5mm, Lead Span 4mm, IPC Medium Density)
footprint PLZZ0004CA-A_L (SOT89, 3-Leads, Body 4.5x2.5 mm, Pitch 1.5mm, Lead Span 4mm, IPC High Density)
footprint PLZZ0004CA-A_M (SOT89, 3-Leads, Body 4.5x2.5 mm, Pitch 1.5mm, Lead Span 4mm, IPC Low Density)
pins: 1 REF (in), 2 A, 3 K